# EAGLE library part ARDUINO-PROMINI (library ncue_ee)
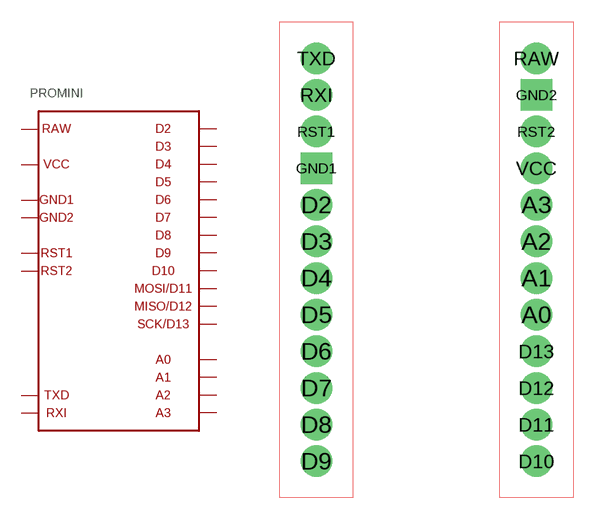
[diagram p8: symbol with the pads of ARDUINO-PROMINI; footprint ARDUINO-PROMINI]

Designator prefix PROMINI

## ARDUINO-PROMINI  [ARDUINO-PROMINI]
A0  A0
A1  A1
A2  A2
A3  A3
D2  D2
D3  D3
D4  D4
D5  D5
D6  D6
D7  D7
D8  D8
D9  D9
D10  D10
D11  D11
D12  D12
D13  D13
GND1  GND1
GND2  GND2
RAW  RAW
RST1  RST1
RST2  RST2
RXI  RXI
TXD  TXD
VCC  VCC

## Footprint ARDUINO-PROMINI (pad centres in mm)
drill 1.016 pad 2.184: A0 15.24,-17.78; A1 15.24,-15.24; A2 15.24,-12.7; A3 15.24,-10.16; D2 0,-10.16; D3 0,-12.7; D4 0,-15.24; D5 0,-17.78; D6 0,-20.32; D7 0,-22.86; D8 0,-25.4; D9 0,-27.94; D10 15.24,-27.94; D11 15.24,-25.4; D12 15.24,-22.86; D13 15.24,-20.32; RAW 15.24,0; RST1 0,-5.08; RST2 15.24,-5.08; RXI 0,-2.54; TXD 0,0; VCC 15.24,-7.62
drill 1.016 pad 2.184 square: GND1 0,-7.62; GND2 15.24,-2.54